# Altium footprint library SensorBoardPCBLib.PcbLib: 10 footprints
Each footprint in its own frame and in the unit in brackets; x right, y up, seen from the top. Pads: shape width x height; smd on the part's side, far side on the other; paste and mask are expansions set on the pad; w line width, h text height; cw(c..) or ccw(c..) is an arc to the next point about the centre after c.
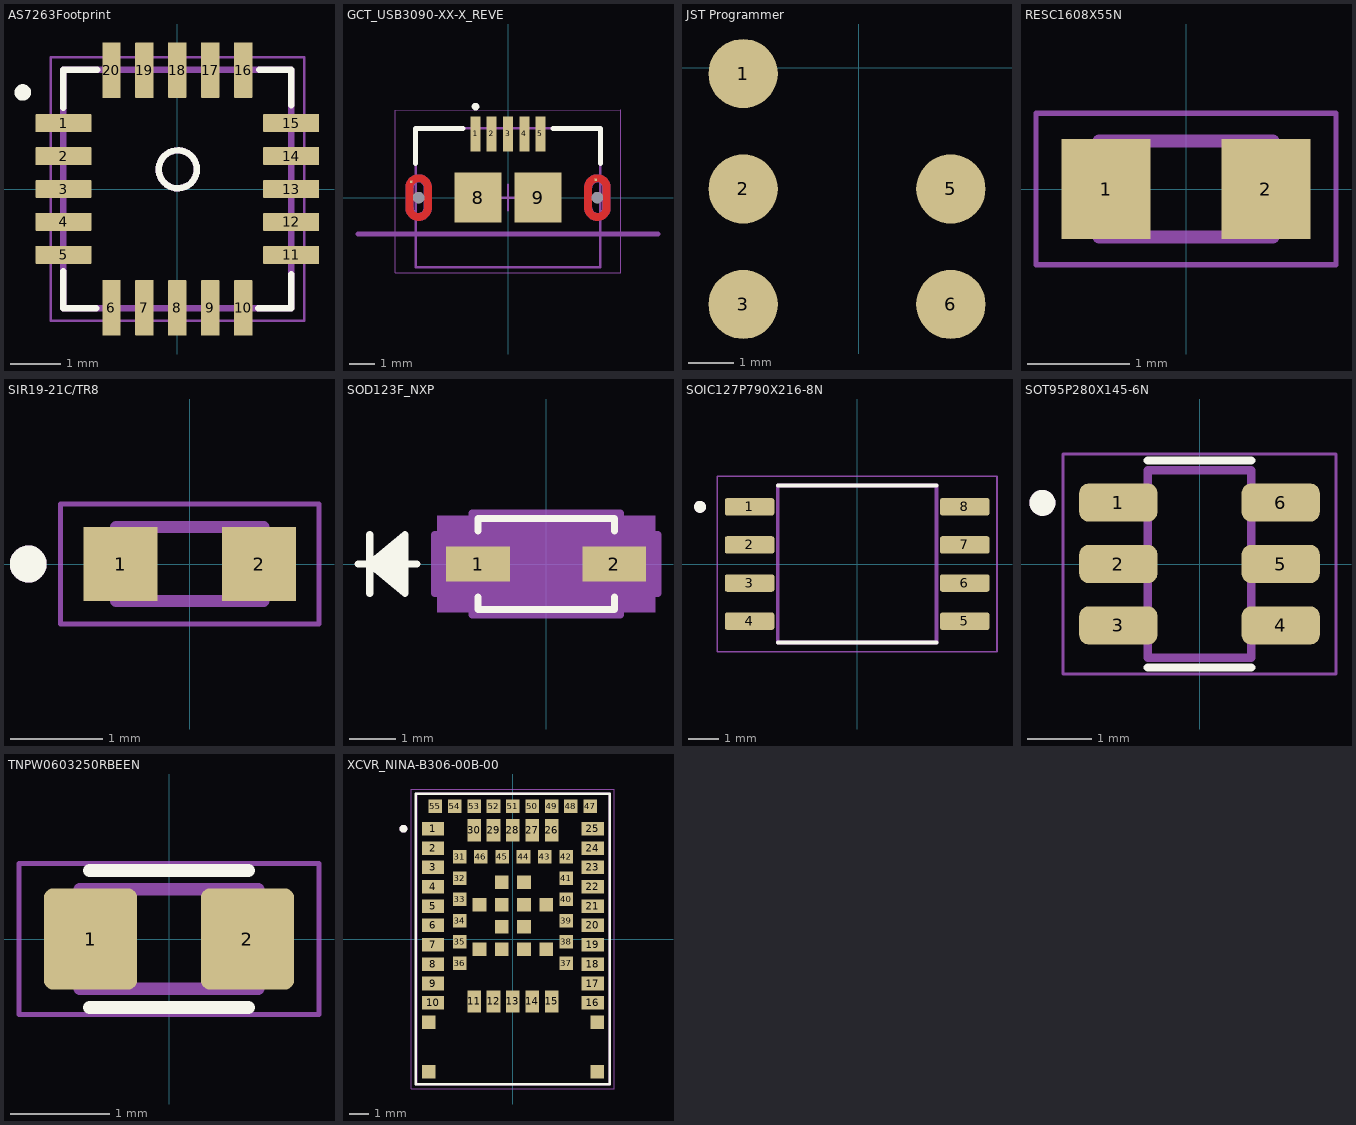
[diagram p0: the footprints below, top view; thin cyan lines are the x and y axes]

## AS7263Footprint [mm]
pads (20):
  rrect9% 1.1x0.36 smd: 1(-2.245,1.3) 2(-2.245,0.65) 3(-2.245,0) 4(-2.245,-0.65) 5(-2.245,-1.3) 11(2.245,-1.3) 12(2.245,-0.65) 13(2.245,0) 14(2.245,0.65) 15(2.245,1.3)
  rrect9% 0.36x1.1 smd: 6(-1.3,-2.345) 7(-0.65,-2.345) 8(0,-2.345) 9(0.65,-2.345) 10(1.3,-2.345) 16(1.3,2.345) 17(0.65,2.345) 18(0,2.345) 19(-0.65,2.345) 20(-1.3,2.345)
Top Overlay:
  circle w0.175: c-3.048,1.905 r0.075
  circle w0.127: c0.01,0.388 r0.375
  lines w0.127: -2.25,-1.62 -2.25,-2.35 -1.6,-2.35 ; -2.25,1.6 -2.25,2.35 -1.58,2.35 ; 1.6,-2.35 2.25,-2.35 2.25,-1.68 ; 1.62,2.35 2.25,2.35 2.25,1.65
Mechanical 13:
  circle w0.127: c0.01,0.388 r0.375
  lines w0.127: -2.25,-2.35 2.25,-2.35 2.25,2.35 -2.25,2.35 -2.25,-2.35
Mechanical 15:
  lines w0.05: -2.5,-2.6 2.5,-2.6 2.5,2.6 -2.5,2.6 -2.5,-2.6
3D body "User Library-AS7262.STEP": height 2.6, standoff -0.05, extent -2.35,-2.25 2.35,2.25

## GCT_USB3090-XX-X_REVE [mm]
pads (11):
  rect 0.4x1.4 smd: 1(-1.3,2.55) 2(-0.65,2.55) 3(0,2.55) 4(0.65,2.55) 5(1.3,2.55)
  rect 0.1x0.1 smd paste-1 mask+0: 6(-3.87,0.63) 7(3.51,0.72)
  rect 1.9x2 smd: 8(-1.2,0) 9(1.2,0)
  round 0.45 hole 0.45 unplated: ""(-3.575,0) ""(3.575,0)
Top Layer:
  region: 4.1,-0.4 4.099,-0.427 4.097,-0.455 4.094,-0.482 4.089,-0.509 4.082,-0.536 4.074,-0.562 4.065,-0.588 4.055,-0.614 4.043,-0.638 4.03,-0.663 4.015,-0.686 4,-0.709 3.983,-0.73 3.965,-0.751 3.946,-0.771 3.926,-0.79 3.905,-0.808 3.884,-0.825 3.861,-0.84 3.838,-0.855 3.813,-0.868 3.789,-0.88 3.763,-0.89 3.737,-0.899 3.711,-0.907 3.684,-0.914 3.657,-0.919 3.63,-0.922 3.602,-0.924 3.575,-0.925 3.548,-0.924 3.52,-0.922 3.493,-0.919 3.466,-0.914 3.439,-0.907 3.413,-0.899 3.387,-0.89 3.361,-0.88 3.337,-0.868 3.313,-0.855 3.289,-0.84 3.266,-0.825 3.245,-0.808 3.224,-0.79 3.204,-0.771 3.185,-0.751 3.167,-0.73 3.15,-0.709 3.135,-0.686 3.12,-0.663 3.107,-0.638 3.095,-0.614 3.085,-0.588 3.076,-0.562 3.068,-0.536 3.061,-0.509 3.056,-0.482 3.053,-0.455 3.051,-0.427 3.05,-0.4 3.05,0 3.35,0 3.35,-0.4 3.35,-0.412 3.351,-0.424 3.353,-0.435 3.355,-0.447 3.358,-0.458 3.361,-0.47 3.365,-0.481 3.369,-0.492 3.375,-0.502 3.38,-0.513 3.386,-0.523 3.393,-0.532 3.4,-0.542 3.408,-0.551 3.416,-0.559 3.424,-0.567 3.433,-0.575 3.443,-0.582 3.452,-0.589 3.463,-0.595 3.473,-0.6 3.483,-0.606 3.494,-0.61 3.505,-0.614 3.517,-0.617 3.528,-0.62 3.54,-0.622 3.551,-0.624 3.563,-0.625 3.575,-0.625 3.587,-0.625 3.599,-0.624 3.61,-0.622 3.622,-0.62 3.633,-0.617 3.645,-0.614 3.656,-0.61 3.667,-0.606 3.677,-0.6 3.688,-0.595 3.698,-0.589 3.707,-0.582 3.717,-0.575 3.726,-0.567 3.734,-0.559 3.742,-0.551 3.75,-0.542 3.757,-0.532 3.764,-0.523 3.77,-0.513 3.775,-0.502 3.781,-0.492 3.785,-0.481 3.789,-0.47 3.792,-0.458 3.795,-0.447 3.797,-0.435 3.799,-0.424 3.8,-0.412 3.8,-0.4 3.8,0 4.1,0
  region: 3.602,0.924 3.63,0.922 3.657,0.919 3.684,0.914 3.711,0.907 3.737,0.899 3.763,0.89 3.789,0.88 3.813,0.868 3.838,0.855 3.861,0.84 3.884,0.825 3.905,0.808 3.926,0.79 3.946,0.771 3.965,0.751 3.983,0.73 4,0.709 4.015,0.686 4.03,0.663 4.043,0.638 4.055,0.614 4.065,0.588 4.074,0.562 4.082,0.536 4.089,0.509 4.094,0.482 4.097,0.455 4.099,0.427 4.1,0.4 4.1,0 3.8,0 3.8,0.4 3.8,0.412 3.799,0.424 3.797,0.435 3.795,0.447 3.792,0.458 3.789,0.47 3.785,0.481 3.781,0.492 3.775,0.502 3.77,0.513 3.764,0.523 3.757,0.532 3.75,0.542 3.742,0.551 3.734,0.559 3.726,0.567 3.717,0.575 3.707,0.582 3.698,0.589 3.688,0.595 3.677,0.6 3.667,0.606 3.656,0.61 3.645,0.614 3.633,0.617 3.622,0.62 3.61,0.622 3.599,0.624 3.587,0.625 3.575,0.625 3.563,0.625 3.551,0.624 3.54,0.622 3.528,0.62 3.517,0.617 3.505,0.614 3.494,0.61 3.483,0.606 3.473,0.6 3.463,0.595 3.452,0.589 3.443,0.582 3.433,0.575 3.424,0.567 3.416,0.559 3.408,0.551 3.4,0.542 3.393,0.532 3.386,0.523 3.38,0.513 3.375,0.502 3.369,0.492 3.365,0.481 3.361,0.47 3.358,0.458 3.355,0.447 3.353,0.435 3.351,0.424 3.35,0.412 3.35,0.4 3.35,0 3.05,0 3.05,0.4 3.051,0.427 3.053,0.455 3.056,0.482 3.061,0.509 3.068,0.536 3.076,0.562 3.085,0.588 3.095,0.614 3.107,0.638 3.12,0.663 3.135,0.686 3.15,0.709 3.167,0.73 3.185,0.751 3.204,0.771 3.224,0.79 3.245,0.808 3.266,0.825 3.289,0.84 3.313,0.855 3.337,0.868 3.361,0.88 3.387,0.89 3.413,0.899 3.439,0.907 3.466,0.914 3.493,0.919 3.52,0.922 3.548,0.924 3.575,0.925
  region: -3.05,-0.4 -3.051,-0.427 -3.053,-0.455 -3.056,-0.482 -3.061,-0.509 -3.068,-0.536 -3.076,-0.562 -3.085,-0.588 -3.095,-0.614 -3.107,-0.638 -3.12,-0.663 -3.135,-0.686 -3.15,-0.709 -3.167,-0.73 -3.185,-0.751 -3.204,-0.771 -3.224,-0.79 -3.245,-0.808 -3.266,-0.825 -3.289,-0.84 -3.313,-0.855 -3.337,-0.868 -3.361,-0.88 -3.387,-0.89 -3.413,-0.899 -3.439,-0.907 -3.466,-0.914 -3.493,-0.919 -3.52,-0.922 -3.548,-0.924 -3.575,-0.925 -3.602,-0.924 -3.63,-0.922 -3.657,-0.919 -3.684,-0.914 -3.711,-0.907 -3.737,-0.899 -3.763,-0.89 -3.789,-0.88 -3.813,-0.868 -3.838,-0.855 -3.861,-0.84 -3.884,-0.825 -3.905,-0.808 -3.926,-0.79 -3.946,-0.771 -3.965,-0.751 -3.983,-0.73 -4,-0.709 -4.015,-0.686 -4.03,-0.663 -4.043,-0.638 -4.055,-0.614 -4.065,-0.588 -4.074,-0.562 -4.082,-0.536 -4.089,-0.509 -4.094,-0.482 -4.097,-0.455 -4.099,-0.427 -4.1,-0.4 -4.1,0 -3.8,0 -3.8,-0.4 -3.8,-0.412 -3.799,-0.424 -3.797,-0.435 -3.795,-0.447 -3.792,-0.458 -3.789,-0.47 -3.785,-0.481 -3.781,-0.492 -3.775,-0.502 -3.77,-0.513 -3.764,-0.523 -3.757,-0.532 -3.75,-0.542 -3.742,-0.551 -3.734,-0.559 -3.726,-0.567 -3.717,-0.575 -3.707,-0.582 -3.698,-0.589 -3.688,-0.595 -3.677,-0.6 -3.667,-0.606 -3.656,-0.61 -3.645,-0.614 -3.633,-0.617 -3.622,-0.62 -3.61,-0.622 -3.599,-0.624 -3.587,-0.625 -3.575,-0.625 -3.563,-0.625 -3.551,-0.624 -3.54,-0.622 -3.528,-0.62 -3.517,-0.617 -3.505,-0.614 -3.494,-0.61 -3.483,-0.606 -3.473,-0.6 -3.463,-0.595 -3.452,-0.589 -3.443,-0.582 -3.433,-0.575 -3.424,-0.567 -3.416,-0.559 -3.408,-0.551 -3.4,-0.542 -3.393,-0.532 -3.386,-0.523 -3.38,-0.513 -3.375,-0.502 -3.369,-0.492 -3.365,-0.481 -3.361,-0.47 -3.358,-0.458 -3.355,-0.447 -3.353,-0.435 -3.351,-0.424 -3.35,-0.412 -3.35,-0.4 -3.35,0 -3.05,0
  region: -3.548,0.924 -3.52,0.922 -3.493,0.919 -3.466,0.914 -3.439,0.907 -3.413,0.899 -3.387,0.89 -3.361,0.88 -3.337,0.868 -3.313,0.855 -3.289,0.84 -3.266,0.825 -3.245,0.808 -3.224,0.79 -3.204,0.771 -3.185,0.751 -3.167,0.73 -3.15,0.709 -3.135,0.686 -3.12,0.663 -3.107,0.638 -3.095,0.614 -3.085,0.588 -3.076,0.562 -3.068,0.536 -3.061,0.509 -3.056,0.482 -3.053,0.455 -3.051,0.427 -3.05,0.4 -3.05,0 -3.35,0 -3.35,0.4 -3.35,0.412 -3.351,0.424 -3.353,0.435 -3.355,0.447 -3.358,0.458 -3.361,0.47 -3.365,0.481 -3.369,0.492 -3.375,0.502 -3.38,0.513 -3.386,0.523 -3.393,0.532 -3.4,0.542 -3.408,0.551 -3.416,0.559 -3.424,0.567 -3.433,0.575 -3.443,0.582 -3.452,0.589 -3.463,0.595 -3.473,0.6 -3.483,0.606 -3.494,0.61 -3.505,0.614 -3.517,0.617 -3.528,0.62 -3.54,0.622 -3.551,0.624 -3.563,0.625 -3.575,0.625 -3.587,0.625 -3.599,0.624 -3.61,0.622 -3.622,0.62 -3.633,0.617 -3.645,0.614 -3.656,0.61 -3.667,0.606 -3.677,0.6 -3.688,0.595 -3.698,0.589 -3.707,0.582 -3.717,0.575 -3.726,0.567 -3.734,0.559 -3.742,0.551 -3.75,0.542 -3.757,0.532 -3.764,0.523 -3.77,0.513 -3.775,0.502 -3.781,0.492 -3.785,0.481 -3.789,0.47 -3.792,0.458 -3.795,0.447 -3.797,0.435 -3.799,0.424 -3.8,0.412 -3.8,0.4 -3.8,0 -4.1,0 -4.1,0.4 -4.099,0.427 -4.097,0.455 -4.094,0.482 -4.089,0.509 -4.082,0.536 -4.074,0.562 -4.065,0.588 -4.055,0.614 -4.043,0.638 -4.03,0.663 -4.015,0.686 -4,0.709 -3.983,0.73 -3.965,0.751 -3.946,0.771 -3.926,0.79 -3.905,0.808 -3.884,0.825 -3.861,0.84 -3.838,0.855 -3.813,0.868 -3.789,0.88 -3.763,0.89 -3.737,0.899 -3.711,0.907 -3.684,0.914 -3.657,0.919 -3.63,0.922 -3.602,0.924 -3.575,0.925
Bottom Layer:
  region: 4.1,-0.4 4.099,-0.427 4.097,-0.455 4.094,-0.482 4.089,-0.509 4.082,-0.536 4.074,-0.562 4.065,-0.588 4.055,-0.614 4.043,-0.638 4.03,-0.663 4.015,-0.686 4,-0.709 3.983,-0.73 3.965,-0.751 3.946,-0.771 3.926,-0.79 3.905,-0.808 3.884,-0.825 3.861,-0.84 3.838,-0.855 3.813,-0.868 3.789,-0.88 3.763,-0.89 3.737,-0.899 3.711,-0.907 3.684,-0.914 3.657,-0.919 3.63,-0.922 3.602,-0.924 3.575,-0.925 3.548,-0.924 3.52,-0.922 3.493,-0.919 3.466,-0.914 3.439,-0.907 3.413,-0.899 3.387,-0.89 3.361,-0.88 3.337,-0.868 3.313,-0.855 3.289,-0.84 3.266,-0.825 3.245,-0.808 3.224,-0.79 3.204,-0.771 3.185,-0.751 3.167,-0.73 3.15,-0.709 3.135,-0.686 3.12,-0.663 3.107,-0.638 3.095,-0.614 3.085,-0.588 3.076,-0.562 3.068,-0.536 3.061,-0.509 3.056,-0.482 3.053,-0.455 3.051,-0.427 3.05,-0.4 3.05,0 3.35,0 3.35,-0.4 3.35,-0.412 3.351,-0.424 3.353,-0.435 3.355,-0.447 3.358,-0.458 3.361,-0.47 3.365,-0.481 3.369,-0.492 3.375,-0.502 3.38,-0.513 3.386,-0.523 3.393,-0.532 3.4,-0.542 3.408,-0.551 3.416,-0.559 3.424,-0.567 3.433,-0.575 3.443,-0.582 3.452,-0.589 3.463,-0.595 3.473,-0.6 3.483,-0.606 3.494,-0.61 3.505,-0.614 3.517,-0.617 3.528,-0.62 3.54,-0.622 3.551,-0.624 3.563,-0.625 3.575,-0.625 3.587,-0.625 3.599,-0.624 3.61,-0.622 3.622,-0.62 3.633,-0.617 3.645,-0.614 3.656,-0.61 3.667,-0.606 3.677,-0.6 3.688,-0.595 3.698,-0.589 3.707,-0.582 3.717,-0.575 3.726,-0.567 3.734,-0.559 3.742,-0.551 3.75,-0.542 3.757,-0.532 3.764,-0.523 3.77,-0.513 3.775,-0.502 3.781,-0.492 3.785,-0.481 3.789,-0.47 3.792,-0.458 3.795,-0.447 3.797,-0.435 3.799,-0.424 3.8,-0.412 3.8,-0.4 3.8,0 4.1,0
  region: 3.602,0.924 3.63,0.922 3.657,0.919 3.684,0.914 3.711,0.907 3.737,0.899 3.763,0.89 3.789,0.88 3.813,0.868 3.838,0.855 3.861,0.84 3.884,0.825 3.905,0.808 3.926,0.79 3.946,0.771 3.965,0.751 3.983,0.73 4,0.709 4.015,0.686 4.03,0.663 4.043,0.638 4.055,0.614 4.065,0.588 4.074,0.562 4.082,0.536 4.089,0.509 4.094,0.482 4.097,0.455 4.099,0.427 4.1,0.4 4.1,0 3.8,0 3.8,0.4 3.8,0.412 3.799,0.424 3.797,0.435 3.795,0.447 3.792,0.458 3.789,0.47 3.785,0.481 3.781,0.492 3.775,0.502 3.77,0.513 3.764,0.523 3.757,0.532 3.75,0.542 3.742,0.551 3.734,0.559 3.726,0.567 3.717,0.575 3.707,0.582 3.698,0.589 3.688,0.595 3.677,0.6 3.667,0.606 3.656,0.61 3.645,0.614 3.633,0.617 3.622,0.62 3.61,0.622 3.599,0.624 3.587,0.625 3.575,0.625 3.563,0.625 3.551,0.624 3.54,0.622 3.528,0.62 3.517,0.617 3.505,0.614 3.494,0.61 3.483,0.606 3.473,0.6 3.463,0.595 3.452,0.589 3.443,0.582 3.433,0.575 3.424,0.567 3.416,0.559 3.408,0.551 3.4,0.542 3.393,0.532 3.386,0.523 3.38,0.513 3.375,0.502 3.369,0.492 3.365,0.481 3.361,0.47 3.358,0.458 3.355,0.447 3.353,0.435 3.351,0.424 3.35,0.412 3.35,0.4 3.35,0 3.05,0 3.05,0.4 3.051,0.427 3.053,0.455 3.056,0.482 3.061,0.509 3.068,0.536 3.076,0.562 3.085,0.588 3.095,0.614 3.107,0.638 3.12,0.663 3.135,0.686 3.15,0.709 3.167,0.73 3.185,0.751 3.204,0.771 3.224,0.79 3.245,0.808 3.266,0.825 3.289,0.84 3.313,0.855 3.337,0.868 3.361,0.88 3.387,0.89 3.413,0.899 3.439,0.907 3.466,0.914 3.493,0.919 3.52,0.922 3.548,0.924 3.575,0.925
  region: -3.05,-0.4 -3.051,-0.427 -3.053,-0.455 -3.056,-0.482 -3.061,-0.509 -3.068,-0.536 -3.076,-0.562 -3.085,-0.588 -3.095,-0.614 -3.107,-0.638 -3.12,-0.663 -3.135,-0.686 -3.15,-0.709 -3.167,-0.73 -3.185,-0.751 -3.204,-0.771 -3.224,-0.79 -3.245,-0.808 -3.266,-0.825 -3.289,-0.84 -3.313,-0.855 -3.337,-0.868 -3.361,-0.88 -3.387,-0.89 -3.413,-0.899 -3.439,-0.907 -3.466,-0.914 -3.493,-0.919 -3.52,-0.922 -3.548,-0.924 -3.575,-0.925 -3.602,-0.924 -3.63,-0.922 -3.657,-0.919 -3.684,-0.914 -3.711,-0.907 -3.737,-0.899 -3.763,-0.89 -3.789,-0.88 -3.813,-0.868 -3.838,-0.855 -3.861,-0.84 -3.884,-0.825 -3.905,-0.808 -3.926,-0.79 -3.946,-0.771 -3.965,-0.751 -3.983,-0.73 -4,-0.709 -4.015,-0.686 -4.03,-0.663 -4.043,-0.638 -4.055,-0.614 -4.065,-0.588 -4.074,-0.562 -4.082,-0.536 -4.089,-0.509 -4.094,-0.482 -4.097,-0.455 -4.099,-0.427 -4.1,-0.4 -4.1,0 -3.8,0 -3.8,-0.4 -3.8,-0.412 -3.799,-0.424 -3.797,-0.435 -3.795,-0.447 -3.792,-0.458 -3.789,-0.47 -3.785,-0.481 -3.781,-0.492 -3.775,-0.502 -3.77,-0.513 -3.764,-0.523 -3.757,-0.532 -3.75,-0.542 -3.742,-0.551 -3.734,-0.559 -3.726,-0.567 -3.717,-0.575 -3.707,-0.582 -3.698,-0.589 -3.688,-0.595 -3.677,-0.6 -3.667,-0.606 -3.656,-0.61 -3.645,-0.614 -3.633,-0.617 -3.622,-0.62 -3.61,-0.622 -3.599,-0.624 -3.587,-0.625 -3.575,-0.625 -3.563,-0.625 -3.551,-0.624 -3.54,-0.622 -3.528,-0.62 -3.517,-0.617 -3.505,-0.614 -3.494,-0.61 -3.483,-0.606 -3.473,-0.6 -3.463,-0.595 -3.452,-0.589 -3.443,-0.582 -3.433,-0.575 -3.424,-0.567 -3.416,-0.559 -3.408,-0.551 -3.4,-0.542 -3.393,-0.532 -3.386,-0.523 -3.38,-0.513 -3.375,-0.502 -3.369,-0.492 -3.365,-0.481 -3.361,-0.47 -3.358,-0.458 -3.355,-0.447 -3.353,-0.435 -3.351,-0.424 -3.35,-0.412 -3.35,-0.4 -3.35,0 -3.05,0
  region: -3.548,0.924 -3.52,0.922 -3.493,0.919 -3.466,0.914 -3.439,0.907 -3.413,0.899 -3.387,0.89 -3.361,0.88 -3.337,0.868 -3.313,0.855 -3.289,0.84 -3.266,0.825 -3.245,0.808 -3.224,0.79 -3.204,0.771 -3.185,0.751 -3.167,0.73 -3.15,0.709 -3.135,0.686 -3.12,0.663 -3.107,0.638 -3.095,0.614 -3.085,0.588 -3.076,0.562 -3.068,0.536 -3.061,0.509 -3.056,0.482 -3.053,0.455 -3.051,0.427 -3.05,0.4 -3.05,0 -3.35,0 -3.35,0.4 -3.35,0.412 -3.351,0.424 -3.353,0.435 -3.355,0.447 -3.358,0.458 -3.361,0.47 -3.365,0.481 -3.369,0.492 -3.375,0.502 -3.38,0.513 -3.386,0.523 -3.393,0.532 -3.4,0.542 -3.408,0.551 -3.416,0.559 -3.424,0.567 -3.433,0.575 -3.443,0.582 -3.452,0.589 -3.463,0.595 -3.473,0.6 -3.483,0.606 -3.494,0.61 -3.505,0.614 -3.517,0.617 -3.528,0.62 -3.54,0.622 -3.551,0.624 -3.563,0.625 -3.575,0.625 -3.587,0.625 -3.599,0.624 -3.61,0.622 -3.622,0.62 -3.633,0.617 -3.645,0.614 -3.656,0.61 -3.667,0.606 -3.677,0.6 -3.688,0.595 -3.698,0.589 -3.707,0.582 -3.717,0.575 -3.726,0.567 -3.734,0.559 -3.742,0.551 -3.75,0.542 -3.757,0.532 -3.764,0.523 -3.77,0.513 -3.775,0.502 -3.781,0.492 -3.785,0.481 -3.789,0.47 -3.792,0.458 -3.795,0.447 -3.797,0.435 -3.799,0.424 -3.8,0.412 -3.8,0.4 -3.8,0 -4.1,0 -4.1,0.4 -4.099,0.427 -4.097,0.455 -4.094,0.482 -4.089,0.509 -4.082,0.536 -4.074,0.562 -4.065,0.588 -4.055,0.614 -4.043,0.638 -4.03,0.663 -4.015,0.686 -4,0.709 -3.983,0.73 -3.965,0.751 -3.946,0.771 -3.926,0.79 -3.905,0.808 -3.884,0.825 -3.861,0.84 -3.838,0.855 -3.813,0.868 -3.789,0.88 -3.763,0.89 -3.737,0.899 -3.711,0.907 -3.684,0.914 -3.657,0.919 -3.63,0.922 -3.602,0.924 -3.575,0.925
Top Overlay:
  circle w0.2: c-1.3,3.64 r0.051
  lines w0.2: -3.7,1.37 -3.7,2.775 -1.8,2.775 ; 1.8,2.775 3.7,2.775 3.7,1.37
Top Paste:
  drawing of 4 lines, arcs and shapes, not listed
Bottom Paste:
  drawing of 4 lines, arcs and shapes, not listed
Top Solder:
  region: 4.3,-1.152 2.855,-1.152 2.855,1.15 4.3,1.15
  region: -2.85,-1.152 -4.306,-1.152 -4.306,1.15 -2.85,1.15
Bottom Solder:
  region: 4.3,-1.152 2.855,-1.152 2.855,1.15 4.3,1.15
  region: -2.85,-1.152 -4.307,-1.152 -4.307,1.15 -2.85,1.15
Mechanical 1:
  lines w0: -3.8,-0.4 ccw(c-3.575,-0.4) -3.575,-0.625 ccw(c-3.575,-0.4) -3.35,-0.4 -3.35,0.4 ccw(c-3.575,0.4) -3.575,0.625 ccw(c-3.575,0.4) -3.8,0.4 -3.8,-0.4 ; 3.35,-0.4 ccw(c3.575,-0.4) 3.575,-0.625 ccw(c3.575,-0.4) 3.8,-0.4 3.8,0.4 ccw(c3.575,0.4) 3.575,0.625 ccw(c3.575,0.4) 3.35,0.4 3.35,-0.4
Mechanical 13:
  lines w0.1: -3.7,-2.775 -3.7,2.775 3.7,2.775 3.7,-2.775 -3.7,-2.775
  lines w0.2: -6,-1.45 6,-1.45
  text "PCB Edge" at -1.905,-2.54 h0.67
Mechanical 15:
  lines w0.05: -4.5,-3 -4.5,3.5 4.5,3.51 4.5,-3 -4.5,-3
  lines w0.1: -0.508,0 0.508,0 ; 0,-0.508 0,0.508
3D body "User Library-MicroUSB-B_Molex_105017-0001.step": height 2.68, standoff -0.63, extent -4.1,-2.78 4.1,2.65

## JST Programmer [mil]
pads (5):
  round 60 smd: 1(-100,-5) 2(-100,-105) 3(-100,-205) 5(80,-105) 6(80,-205)

## RESC1608X55N [mm]
pads (2):
  rect 0.87x0.98 smd: 1(-0.78,0) 2(0.78,0)
Mechanical 13:
  lines w0.127: -0.85,-0.47 0.85,-0.47 0.85,0.47 -0.85,0.47 -0.85,-0.47
Mechanical 15:
  lines w0.05: -1.465,-0.74 1.465,-0.74 1.465,0.74 -1.465,0.74 -1.465,-0.74

## SIR19-21C/TR8 [mm]
pads (2):
  rect 0.8x0.8 smd: 1(-0.75,0) 2(0.75,0)
Top Overlay:
  circle w0.2: c-1.75,0 r0.1
Mechanical 13:
  circle w0.2: c-1.75,0 r0.1
  lines w0.127: -0.8,-0.4 -0.8,0.4 0.8,0.4 0.8,-0.4 -0.8,-0.4
Mechanical 15:
  lines w0.05: -1.4,-0.65 -1.4,0.65 1.4,0.65 1.4,-0.65 -1.4,-0.65
3D body "User Library-LED SMD0603.step": height 0.68, standoff 0, extent -0.825,-0.344 0.825,0.381

## SOD123F_NXP [mil]
pads (2):
  rect 54x30 smd paste+0 mask+0: 1(-58,0) 2(58,0)
Top Overlay:
  lines w6: -160,0 -110,0 ; -150,-25 -150,25 ; -120,-20 -150,0 ; -120,-15 -150,0 ; -120,-10 -150,0 ; -120,-5 -150,0 ; -120,5 -150,0 ; -120,10 -150,0 ; -120,15 -150,0 ; -120,20 -150,0 ; -58,-28.1 -58,-38.5 58,-38.5 58,-28.1 ; -58,28.1 -58,38.5 58,38.5 58,28.1 ; -150,0 -120,-25 -120,25 -150,0
Mechanical 5:
  region: 92.5,-41 -92.5,-41 -92.5,41 92.5,41
Mechanical 13:
  lines w1: -160,0 -110,0 ; -150,-25 -150,25 ; -120,-20 -150,0 ; -120,-15 -150,0 ; -120,-10 -150,0 ; -120,-5 -150,0 ; -120,5 -150,0 ; -120,10 -150,0 ; -120,15 -150,0 ; -120,20 -150,0 ; -53,-16.75 -36.25,-33.5 ; -53,16.75 -36.25,33.5 ; -150,0 -120,-25 -120,25 -150,0 ; -71,-14 -53,-14 -53,14 -71,14 -71,-14 ; -53,-33.5 -53,33.5 53,33.5 53,-33.5 -53,-33.5 ; 53,-14 71,-14 71,14 53,14 53,-14
Mechanical 15:
  region: -63,-25 -95,-25 -95,25 -63,25 -63,43.5 63,43.5 63,25 95,25 95,-25 63,-25 63,-43.5 -63,-43.5
  lines w6: -95,-25 -63,-25 -63,-43.5 63,-43.5 63,-25 95,-25 95,25 63,25 63,43.5 -63,43.5 -63,25 -95,25 -95,-25
3D body "SOD123F_NXP.step": height 47.09, standoff 0, extent -70.98,-33.5 70.98,33.5

## SOIC127P790X216-8N [mm]
pads (8):
  rrect25% 1.65x0.58 smd: 1(-3.585,1.905) 2(-3.585,0.635) 3(-3.585,-0.635) 4(-3.585,-1.905) 5(3.585,-1.905) 6(3.585,-0.635) 7(3.585,0.635) 8(3.585,1.905)
Top Overlay:
  circle w0.2: c-5.235,1.905 r0.1
  lines w0.127: -2.645,-2.62 2.645,-2.62 ; -2.645,2.62 2.645,2.62
Mechanical 13:
  circle w0.2: c-5.235,1.905 r0.1
  lines w0.127: -2.645,-2.62 2.645,-2.62 2.645,2.62 -2.645,2.62 -2.645,-2.62
Mechanical 15:
  lines w0.05: -4.66,-2.925 4.66,-2.925 4.66,2.925 -4.66,2.925 -4.66,-2.925
3D body "step_temp.STEP": height 2.16, standoff 0, extent -3.99,-2.62 3.99,2.62

## SOT95P280X145-6N [mm]
pads (6):
  rrect50% 1.21x0.59 smd: 1(-1.255,0.95) 2(-1.255,0) 3(-1.255,-0.95) 4(1.255,-0.95) 5(1.255,0) 6(1.255,0.95)
Top Overlay:
  circle w0.2: c-2.428,0.945 r0.1
  lines w0.127: -0.8,-1.6 0.8,-1.6 ; -0.8,1.6 0.8,1.6
Mechanical 13:
  circle w0.2: c-2.428,0.945 r0.1
  lines w0.127: -0.8,-1.45 0.8,-1.45 0.8,1.45 -0.8,1.45 -0.8,-1.45
Mechanical 15:
  lines w0.05: -2.11,-1.7 2.11,-1.7 2.11,1.7 -2.11,1.7 -2.11,-1.7
3D body "step_temp.STEP": height 1.5, standoff 0.05, extent -1.4,-1.462 1.4,1.463

## TNPW0603250RBEEN [mm]
pads (2):
  rrect20% 0.94x1.02 smd: 1(-0.79,0) 2(0.79,0)
Top Overlay:
  lines w0.127: -0.8,-0.69 0.8,-0.69 ; -0.8,0.69 0.8,0.69
Mechanical 13:
  lines w0.127: -0.9,-0.5 0.9,-0.5 0.9,0.5 -0.9,0.5 -0.9,-0.5
Mechanical 15:
  lines w0.05: -1.51,-0.76 1.51,-0.76 1.51,0.76 -1.51,0.76 -1.51,-0.76

## XCVR_NINA-B306-00B-00 [mm]
pads (71):
  rect 1.15x0.7 smd: 1(-4.125,5.7) 2(-4.125,4.7) 3(-4.125,3.7) 4(-4.125,2.7) 5(-4.125,1.7) 6(-4.125,0.7) 7(-4.125,-0.3) 8(-4.125,-1.3) 9(-4.125,-2.3) 10(-4.125,-3.3) 16(4.125,-3.3) 17(4.125,-2.3) 18(4.125,-1.3) 19(4.125,-0.3) 20(4.125,0.7) 21(4.125,1.7) 22(4.125,2.7) 23(4.125,3.7) 24(4.125,4.7) 25(4.125,5.7)
  rect 0.7x1.15 smd: 11(-2,-3.225) 12(-1,-3.225) 13(0,-3.225) 14(1,-3.225) 15(2,-3.225) 26(2,5.625) 27(1,5.625) 28(0,5.625) 29(-1,5.625) 30(-2,5.625)
  rect 0.7x0.7 smd: 31(-2.75,4.25) 32(-2.75,3.15) 33(-2.75,2.05) 34(-2.75,0.95) 35(-2.75,-0.15) 36(-2.75,-1.25) 37(2.75,-1.25) 38(2.75,-0.15) 39(2.75,0.95) 40(2.75,2.05) 41(2.75,3.15) 42(2.75,4.25) 43(1.65,4.25) 44(0.55,4.25) 45(-0.55,4.25) 46(-1.65,4.25) 47(4,6.85) 48(3,6.85) 49(2,6.85) 50(1,6.85) 51(0,6.85) 52(-1,6.85) 53(-2,6.85) 54(-3,6.85) 55(-4,6.85) EAGP1(-4.35,-4.3) EAGP2(4.35,-4.3) EAGP3(-4.35,-6.85) EAGP4(4.35,-6.85) EGP1(-0.575,2.925) EGP2(0.575,2.925) EGP3(-1.725,1.775) EGP4(-0.575,1.775) EGP5(0.575,1.775) EGP6(1.725,1.775) EGP7(-0.575,0.625) EGP8(0.575,0.625) EGP9(-1.725,-0.525) EGP10(-0.575,-0.525) EGP11(0.575,-0.525) EGP12(1.725,-0.525)
Top Overlay:
  circle w0.2: c-5.654,5.7 r0.1
  lines w0.127: -5.014,-7.514 5.014,-7.514 5.014,7.514 -5.014,7.514 -5.014,-7.514
Mechanical 13:
  circle w0.2: c-5.654,5.7 r0.1
  lines w0.127: -5,-7.5 -5,7.5 5,7.5 5,-7.5 -5,-7.5
Mechanical 15:
  lines w0.05: -5.25,-7.75 -5.25,7.75 5.25,7.75 5.25,-7.75 -5.25,-7.75
3D body "NINA-B306-00B-00--3DModel-STEP-1.STEP": height 2.63, standoff 0, extent -5,-7.5 5,7.5